# EAGLE library part MAX9924 (library digital_dash)
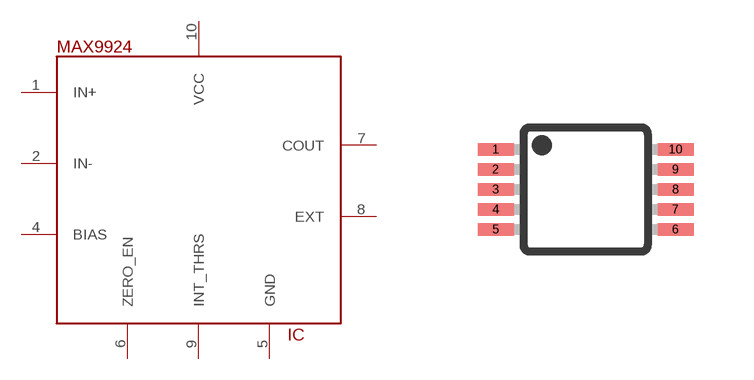
[diagram p10: symbol with the pads of UMAX10; footprint UMAX10]

Designator prefix IC

## MAX9924  [UMAX10]
1  IN+
2  IN-
4  BIAS
5  GND
6  ZERO_EN
7  COUT
8  EXT
9  INT_THRS
10  VCC

## Footprint UMAX10 (pad centres in mm)
micro MAX Package
smd 0.9 x 0.32: 1 -2.25,1; 2 -2.25,0.5; 3 -2.25,0; 4 -2.25,-0.5; 5 -2.25,-1; 6 2.25,-1; 7 2.25,-0.5; 8 2.25,0; 9 2.25,0.5; 10 2.25,1